# Altium footprint library PcbLib.PcbLib: 35 footprints (part 2 of 3)
Each footprint in its own frame and in the unit in brackets; x right, y up, seen from the top. Pads: shape width x height; smd on the part's side, far side on the other; paste and mask are expansions set on the pad; w line width, h text height; cw(c..) or ccw(c..) is an arc to the next point about the centre after c.
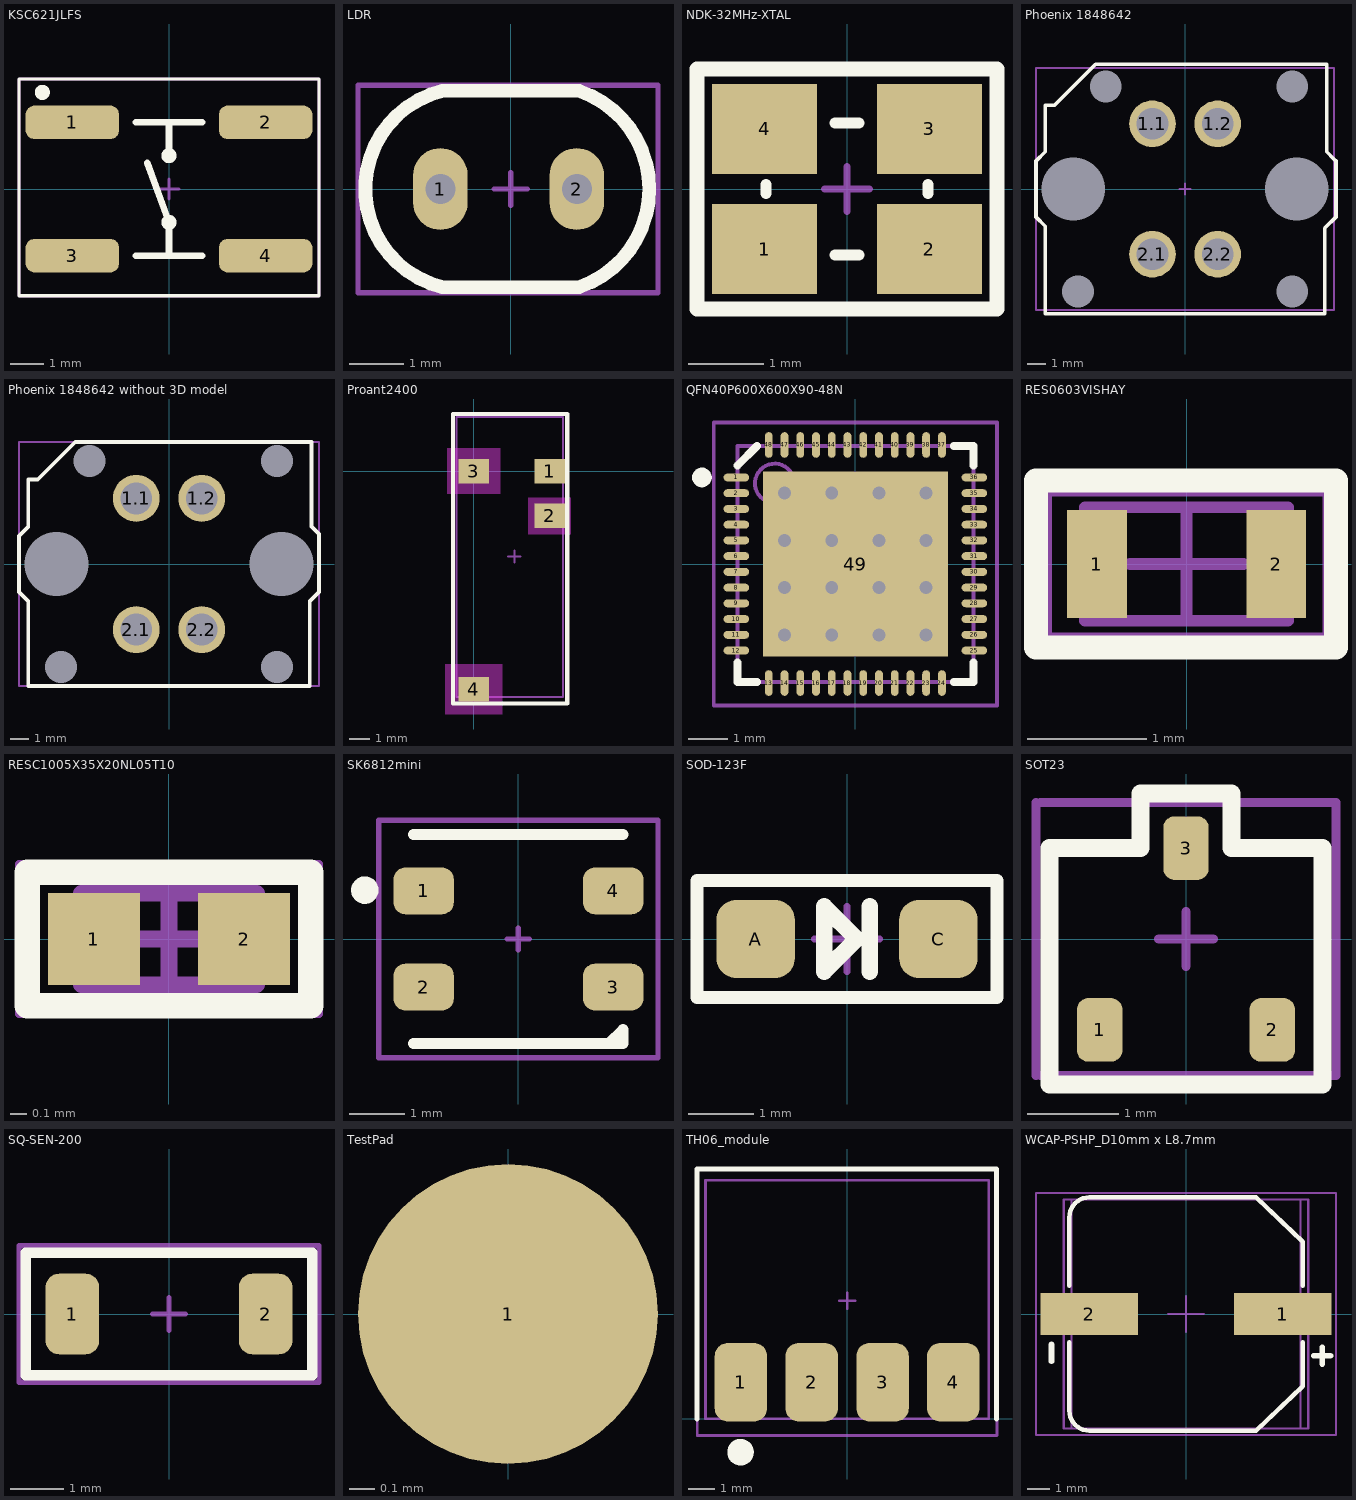
[diagram p1: the footprints below, top view; thin cyan lines are the x and y axes]

## KSC621JLFS [mm] "KSC621JLFS Sealed Tactile Switch SMT"
pads (4):
  rrect50% 2.8x1 smd: 1(-2.9,2) 2(2.9,2) 3(-2.9,-2) 4(2.9,-2)
Top Overlay:
  circle w0.254: c-3.8,2.9 r0.1
  circle w0.254: c0,-1 r0.1
  circle w0.254: c0,1 r0.1
  lines w0.1: -4.5,-3.2 -4.5,3.3 4.5,3.3 4.5,-3.2 -4.5,-3.2
  lines w0.2: -1,-2 0,-2 ; -1,2 0,2 ; -0.65,0.785 0,-1 0,-2 ; 0,1 0,2 ; 1,-2 0,-2 ; 1,2 0,2
Mechanical 15:
  lines w0.1: -0.3,0 0.3,0 ; 0,-0.3 0,0.3 ; -4.5,-3.2 -4.5,3.3 4.5,3.3 4.5,-3.2 -4.5,-3.2
3D body "KSC621JLFS.stp": height 7.65, standoff 0, extent -3.4,-3.1 3.4,3.2

## LDR [mm] "LDR THT footprint"
pads (2):
  oval 1x1.5 hole 0.55: 1(-1.288,0) 2(1.212,0)
Top Overlay:
  lines w0.254: -1.25,-1.8 cw(c-0.815,0) -1.25,1.8 1.25,1.8 cw(c0.639,0) 1.25,-1.8 -1.25,-1.8
Mechanical 15:
  lines w0.1: -0.3,0 0.3,0 ; 0,-0.3 0,0.3 ; -2.8,-1.9 2.7,-1.9 2.7,1.9 -2.8,1.9 -2.8,-1.9
3D body "STEP_LDR_pcb_TH.STEP": height 2.52, standoff -2.5, extent -2.55,-2.15 2.55,2.15

## NDK-32MHz-XTAL [mm] "NDK NX3225SA"
pads (4):
  rect 1.4x1.2 smd: 1(-1.1,-0.8) 2(1.1,-0.8) 3(1.1,0.8) 4(-1.1,0.8)
Top Overlay:
  lines w0.152: -1.08,-0.06 -1.08,0.06 ; -0.16,-0.88 0.16,-0.88 ; -0.16,0.88 0.16,0.88 ; 1.08,-0.06 1.08,0.06
  lines w0.2: -2,-1.6 2,-1.6 2,1.6 -2,1.6 -2,-1.6
Mechanical 15:
  lines w0.1: -0.3,0 0.3,0 ; 0,-0.3 0,0.3 ; -2,-1.6 2,-1.6 2,1.6 -2,1.6 -2,-1.6
3D body: height 0.55, standoff 0, extent -1.6,-1.25 1.6,1.25

## Phoenix 1848642 [mm] "Phoenix Contact plug in connector"
pads (10):
  round 2.5 hole 1.7: 1.1(-1.75,3.5) 1.2(1.75,3.5) 2.1(-1.75,-3.5) 2.2(1.75,-3.5)
  round 0 hole 1.7 unplated: H1(-4.25,5.5) H2(5.75,5.5) H3(-5.75,-5.5) H4(5.75,-5.5)
  round 0 hole 3.4 unplated: H5(-6,0) H6(6,0)
Top Overlay:
  lines w0.2: -8,-1.5 -8,1.5 -7.5,2 -7.5,4.5 -7,4.5 -4.8,6.7 7.6,6.7 7.6,2 8,1.6 8.1,1.5 8.1,-1.5 7.5,-2.1 7.5,-6.7 -7.5,-6.7 -7.5,-2 -8,-1.5
Bottom Overlay:
  lines w0.2: 8.1,1.5 8.1,-1.5 7.5,-2.1 7.5,-6.7 -7.5,-6.7 -7.5,-2 -8,-1.5 -8,1.5 -7.5,2 -7.5,4.5 -7,4.5 -4.8,6.7 7.6,6.7 7.6,2 8.1,1.5 ; 8.1,1.5 8.1,1.5
Mechanical 15:
  lines w0.1: -8,-3.5 -8,5.1 ; -0.3,0 0.3,0 ; 0,-0.3 0,0.3 ; -8,-6.5 -8,6.5 8,6.5 8,-6.5 -8,-6.5
3D body "phoenix_1848642_00.stp": height 14.1, standoff -3.5, extent -7.7,-6.75 7.6,6.75

## Phoenix 1848642 without 3D model [mm] "Phoenix Contact plug in connector"
pads (10):
  round 2.5 hole 1.7: 1.1(-1.75,3.5) 1.2(1.75,3.5) 2.1(-1.75,-3.5) 2.2(1.75,-3.5)
  round 0 hole 1.7 unplated: H1(-4.25,5.5) H2(5.75,5.5) H3(-5.75,-5.5) H4(5.75,-5.5)
  round 0 hole 3.4 unplated: H5(-6,0) H6(6,0)
Top Overlay:
  lines w0.2: 8,-1.5 7.5,-2 7.5,-6.5 -7.5,-6.5 -7.5,-2 -8,-1.5 -8,1.5 -7.5,2 -7.5,4.5 -7,4.5 -5,6.5 7.6,6.5 7.6,2 8,1.6 8,1.5 8,-1.5 ; 8,-1.5 8,-1.5
Mechanical 15:
  lines w0.1: -8,-3.5 -8,5.1 ; -8,-6.5 8,-6.5 8,6.5 -8,6.5 -8,-6.5

## Proant2400 [mm] "Proant 2400, 2.4GHz antenna"
pads (4):
  rect 1.5x1.2 smd: 1(3.73,0) 2(3.73,-2.2) 3(0,0) 4(0,-10.7)
Top Overlay:
  lines w0.2: -1,-11.4 -1,2.8 4.6,2.8 4.6,-11.4 -1,-11.4
Keep-Out Layer:
  region: 2.68,-1.3 2.68,-3.1 4.78,-3.1 4.78,-1.3
  region: -1.3,1.125 -1.3,-1.125 1.3,-1.125 1.3,1.125
  region: -1.4,-9.475 -1.4,-11.925 1.4,-11.925 1.4,-9.475
Mechanical 15:
  lines w0.1: 1.7,-4.2 2.3,-4.2 ; 2,-4.5 2,-3.9 ; -0.83,-11.1 -0.83,2.65 4.4,2.65 4.4,-11.1 -0.83,-11.1
3D body "proant2400.STEP": height 3.56, standoff 0.04, extent -0.869,-11.03 4.36,2.72

## QFN40P600X600X90-48N [mm]
pads (49):
  oval 0.65x0.2 smd: 1(-3.025,2.2) 2(-3.025,1.8) 3(-3.025,1.4) 4(-3.025,1) 5(-3.025,0.6) 6(-3.025,0.2) 7(-3.025,-0.2) 8(-3.025,-0.6) 9(-3.025,-1) 10(-3.025,-1.4) 11(-3.025,-1.8) 12(-3.025,-2.2) 25(3.025,-2.2) 26(3.025,-1.8) 27(3.025,-1.4) 28(3.025,-1) 29(3.025,-0.6) 30(3.025,-0.2) 31(3.025,0.2) 32(3.025,0.6) 33(3.025,1) 34(3.025,1.4) 35(3.025,1.8) 36(3.025,2.2)
  oval 0.2x0.65 smd: 13(-2.2,-3.025) 14(-1.8,-3.025) 15(-1.4,-3.025) 16(-1,-3.025) 17(-0.6,-3.025) 18(-0.2,-3.025) 19(0.2,-3.025) 20(0.6,-3.025) 21(1,-3.025) 22(1.4,-3.025) 23(1.8,-3.025) 24(2.2,-3.025) 37(2.2,3.025) 38(1.8,3.025) 39(1.4,3.025) 40(1,3.025) 41(0.6,3.025) 42(0.2,3.025) 43(-0.2,3.025) 44(-0.6,3.025) 45(-1,3.025) 46(-1.4,3.025) 47(-1.8,3.025) 48(-2.2,3.025)
  rect 4.7x4.7 smd: 49(0,0)
via 1.8,-1.8 diameter 0.66 hole 0.33
via 0.6,-1.8 diameter 0.66 hole 0.33
via -0.6,-1.8 diameter 0.66 hole 0.33
via -1.8,-1.8 diameter 0.66 hole 0.33
via 1.8,-0.6 diameter 0.66 hole 0.33
via 0.6,-0.6 diameter 0.66 hole 0.33
via -0.6,-0.6 diameter 0.66 hole 0.33
via -1.8,-0.6 diameter 0.66 hole 0.33
via 1.8,0.6 diameter 0.66 hole 0.33
via 0.6,0.6 diameter 0.66 hole 0.33
via -0.6,0.6 diameter 0.66 hole 0.33
via -1.8,0.6 diameter 0.66 hole 0.33
via 1.8,1.8 diameter 0.66 hole 0.33
via 0.6,1.8 diameter 0.66 hole 0.33
via -0.6,1.8 diameter 0.66 hole 0.33
via -1.8,1.8 diameter 0.66 hole 0.33
Top Overlay:
  circle w0.25: c-3.9,2.2 r0.125
  lines w0.2: -3,-2.5 -3,-3 -2.5,-3 ; -3,2.5 -2.5,3 ; 2.5,-3 3,-3 3,-2.5 ; 2.5,3 3,3 3,2.5
Mechanical 13:
  circle w0.1: c-2.05,2.05 r0.5
  lines w0.1: -3,-3 3,-3 3,3 -3,3 -3,-3
Mechanical 15:
  lines w0.1: -0.5,0 0.5,0 ; 0,-0.5 0,0.5 ; -3.6,-3.6 3.6,-3.6 3.6,3.6 -3.6,3.6 -3.6,-3.6
3D body "User Library-QFN48.step": height 0.86, standoff -0.01, extent -3.02,-3.02 3.02,3.02

## RES0603VISHAY [mm] "Chip Resistor, 2-Leads, Vishay 0603INCH"
height 0.55
pads (2):
  rect 0.5x0.9 smd: 1(-0.75,0) 2(0.75,0)
Top Overlay:
  lines w0.2: -1.26,-0.7 -1.26,0.7 1.25,0.7 1.25,-0.7 -1.26,-0.7
Mechanical 13:
  lines w0.1: -0.85,-0.475 -0.85,0.475 0.85,0.475 0.85,-0.475 -0.85,-0.475
Mechanical 15:
  lines w0.05: -1.15,-0.6 -1.15,0.59 1.16,0.59 1.16,-0.6 -1.15,-0.6
  lines w0.1: -0.475,0 0.475,0 ; 0,-0.475 0,0.475
3D body "RESC1608X06N.step": height 0.55, standoff 0, extent -0.85,-0.475 0.85,0.475

## RESC1005X35X20NL05T10 [mm] "Chip Resistor, 2-Leads, Body 1.00x0.50mm, IPC Medium Density 0402"
height 0.35
pads (2):
  rect 0.55x0.55 smd: 1(-0.45,0) 2(0.45,0)
Top Overlay:
  lines w0.152: -0.85,-0.4 0.85,-0.4 0.85,0.4 -0.85,0.4 -0.85,-0.4
Mechanical 13:
  lines w0.1: -0.525,-0.275 0.525,-0.275 0.525,0.275 -0.525,0.275 -0.525,-0.275
Mechanical 15:
  lines w0.05: -0.9,-0.45 0.9,-0.45 0.9,0.45 -0.9,0.45 -0.9,-0.45
  lines w0.1: -0.275,0 0.275,0 ; 0,-0.275 0,0.275
3D body: height 0.35, standoff 0, extent 0.325,-0.275 0.525,0.275
3D body: height 0.35, standoff 0, extent -0.525,-0.275 -0.325,0.275
3D body: height 0.35, standoff 0, extent -0.325,-0.275 0.325,0.275

## SK6812mini [mm] "SK6812mini RGB LED"
pads (4):
  rrect50% 1.1x0.85 smd: 1(-1.725,0.875) 2(-1.725,-0.875) 3(1.725,-0.875) 4(1.725,0.875)
Top Overlay:
  circle w0.25: c-2.794,0.889 r0.125
  lines w0.2: -1.905,-1.905 1.905,-1.905 ; -1.905,1.905 1.905,1.905 ; 1.651,-1.905 1.905,-1.651 1.905,-1.905 ; 1.651,-1.905 1.905,-1.905 ; 1.651,-1.905 1.905,-1.905
Mechanical 15:
  lines w0.1: -0.2,0 0.2,0 ; 0,-0.2 0,0.2 ; -2.54,-2.159 -2.54,2.159 2.54,2.159 2.54,-2.159 -2.54,-2.159
3D body "SMD SK6812 Super LED.step": height 0.95, standoff -0.01, extent -1.85,-1.75 1.85,1.75

## SOD-123F [mm] "Schottky Diode"
pads (2):
  rrect50% 1.2x1.2 smd: A(-1.4,0) C(1.4,0)
Top Overlay:
  lines w0.2: -2.3,-0.9 -2.3,0.9 2.3,0.9 2.3,-0.9 -2.3,-0.9
  lines w0.254: 0.35,-0.5 0.35,0.5 ; -0.35,-0.5 -0.35,0.5 0.15,0 -0.35,-0.5
Mechanical 15:
  lines w0.1: -0.5,0 0.5,0 ; 0,-0.5 0,0.5 ; -2.3,-0.9 -2.3,0.9 2.3,0.9 2.3,-0.9 -2.3,-0.9
3D body "SOD-123FL.STEP": height 1.35, standoff 0, extent -1.925,-1.077 1.925,1.076

## SOT23 [mm] "3 Terminal surface mount package"
pads (3):
  rrect50% 0.5x0.7 smd: 1(-0.95,-1) 2(0.95,-1) 3(0,1)
Top Overlay:
  lines w0.2: -1.5,-1.6 1.5,-1.6 1.5,1 0.5,1 0.5,1.6 -0.5,1.6 -0.5,1 -1.5,1 -1.5,-1.6
Mechanical 15:
  lines w0.1: -1.65,-1.5 -1.65,1.5 ; -1.6,-1.5 1.65,-1.5 1.65,1.5 -1.6,1.5 ; -0.3,0 0.3,0 ; 0,-0.3 0,0.3
3D body "sot23 v2.step": height 1.1, standoff 0, extent -1.496,-1.196 1.504,1.204

## SQ-SEN-200 [mm] "Nano power Tilt and Vibration Sensor"
pads (2):
  rrect50% 1x1.5 smd: 1(-1.8,0) 2(1.8,0)
Top Overlay:
  lines w0.2: -2.667,-1.143 -2.667,1.016 -2.667,1.143 2.667,1.143 2.667,-1.143 -2.667,-1.143
Mechanical 15:
  lines w0.1: -0.3,0 0.3,0 ; 0,-0.3 0,0.3 ; -2.794,-1.27 -2.794,1.27 2.794,1.27 2.794,-1.27 -2.794,-1.27
3D body: height 1.95, standoff 0, extent 1.4,-0.979 1.8,0.964
3D body: height 1.95, standoff 0, extent -1.8,-0.979 -1.4,0.964
3D body: height 1.87, standoff 0.08, extent -1.4,-0.904 1.4,0.889

## TestPad [mm] "TestPad 1.2mm"
pads (1):
  round 1.2 smd: 1(0,0)
Mechanical 15:
  lines w0.1: -0.3,0 0.3,0 ; 0,-0.3 0,0.3

## TH06_module [mm] "TH06 Humidity and Temperature Module"
pads (4):
  rrect50% 2x3 smd: 1(-4.05,1.4) 2(-1.35,1.4) 3(1.35,1.4) 4(4.05,1.4)
Top Overlay:
  circle w0.5: c-4.064,-1.27 r0.256
  lines w0.2: -5.725,0 -5.725,9.525 5.7,9.525 5.7,0
Mechanical 11:
  lines w0.1: -5.4,0 -5.4,9.1 5.4,9.1 5.4,0 -5.4,0
Mechanical 15:
  lines w0.1: -0.3,4.5 0.3,4.5 ; 0,4.2 0,4.8 ; -5.715,-0.635 -5.715,9.525 5.715,9.525 5.715,-0.635 -5.715,-0.635
3D body: height 0.9, standoff 0, extent -5.461,-0.127 5.461,9.144
3D body: height 1.9, standoff 0.9, extent -1.27,4.445 1.27,6.985

## WCAP-PSHP_D10mm x L8.7mm [mm] "Aluminium Polymer V-Chip SMT Capacitors, D10mm x L8.7mm"
height 8.7
pads (2):
  rect 4.4x1.9 smd: 1(4.35,0) 2(-4.35,0)
Top Overlay:
  lines w0.2: -5.25,-1.27 -5.25,-4.35 ccw(c-4.35,-4.35) -4.35,-5.25 3.15,-5.25 5.25,-3.25 5.25,-1.28 ; -5.25,1.27 -5.25,4.35 cw(c-4.35,4.35) -4.35,5.25 3.15,5.25 5.25,3.25 5.25,1.28
  lines w0.254: -6.05,-2.125 -6.05,-1.375 ; 5.75,-1.875 6.5,-1.875 ; 6.125,-2.25 6.125,-1.5
Mechanical 11:
  lines w0.1: -5.15,-5.15 5.15,-5.15 5.15,5.15 -5.15,5.15 -5.15,-5.15
  text ".Designator" at 0,0 h1
Mechanical 13:
  lines w0.1: -5.5,-5.15 -5.5,5.15 5.5,5.15 5.5,-5.15 -5.5,-5.15
Mechanical 15:
  lines w0.1: -0.8,0 0.8,0 ; 0,-0.8 0,0.8 ; -6.75,-5.45 6.75,-5.45 6.75,5.45 -6.75,5.45 -6.75,-5.45
3D body "10x8.7x4.5.stp": height 8.7, standoff 0, extent -5.5,-5.15 5.5,5.15